# Altium footprint library MECH_BATTERY_HOLDER_3XAA_3XR6_49X58mm_PINS.PcbLib: 1 footprints
Each footprint in its own frame and in the unit in brackets; x right, y up, seen from the top. Pads: shape width x height; smd on the part's side, far side on the other; paste and mask are expansions set on the pad; w line width, h text height; cw(c..) or ccw(c..) is an arc to the next point about the centre after c.
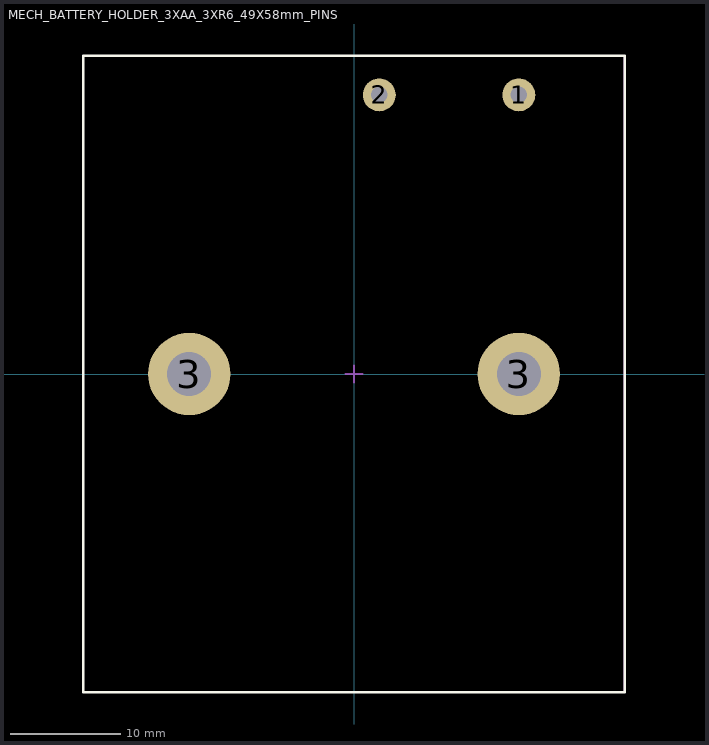
[diagram p0: the footprint, top view; thin cyan lines are the x and y axes]

## MECH_BATTERY_HOLDER_3XAA_3XR6_49X58mm_PINS [mm]
pads (4):
  round 3 hole 1.5: 1(15,25.4) 2(2.3,25.4)
  round 7.5 hole 4: 3(-15,0) 3(15,0)
Top Overlay:
  lines w0.2: -24.638,-28.956 -24.638,28.956 24.638,28.956 24.638,-28.956 -24.638,-28.956
Mechanical 13:
  lines w0.1: -24.6,-28.956 24.6,-28.956 24.6,28.956 -24.6,28.956 -24.6,-28.956
Mechanical 15:
  lines w0.1: -24.638,-28.956 24.638,-28.956 24.638,28.956 -24.638,28.956 -24.638,-28.956
  lines w0.2: -0.762,0 0.762,0 ; 0,-0.762 0,0.762
Mechanical 17:
  text ".Designator" at -6.35,-0.762 h1.52
Mechanical 19:
  text ".Comment" at -6.35,-0.762 h1.52
3D body "User Library-3aa battery holder.step": height 16.59, standoff 0.08, extent -24.646,-28.829 24.63,28.829